# EAGLE library part AD5449 (library BeaverBoard)
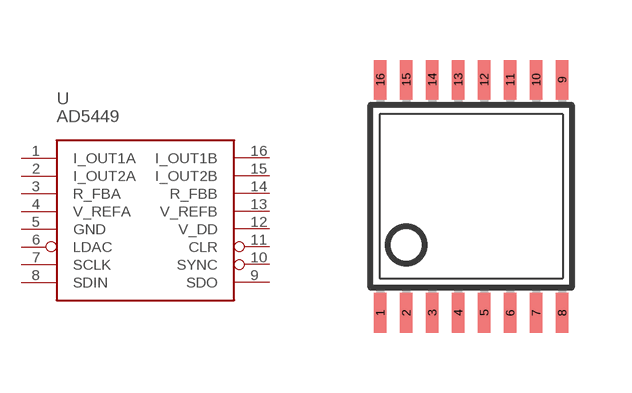
[diagram p5: symbol with the pads of TSSOP16; footprint TSSOP16]

Designator prefix -

## AD5449  [TSSOP16]
1  I_OUT1A  out
2  I_OUT2A  out
3  R_FBA
4  V_REFA
5  GND  sup
6  LDAC
7  SCLK  in
8  SDIN  in
9  SDO  out
10  SYNC  in
11  CLR
12  V_DD  sup
13  V_REFB
14  R_FBB
15  I_OUT2B  out
16  I_OUT1B  out

## Footprint TSSOP16 (pad centres in mm)
Thin Shrink Small Outline Plastic 16 MAX3223-MAX3243.pdf
smd 0.305 x 0.991: 1 -2.275,-2.918; 2 -1.625,-2.918; 3 -0.975,-2.918; 4 -0.325,-2.918; 5 0.325,-2.918; 6 0.975,-2.918; 7 1.625,-2.918; 8 2.275,-2.918; 9 2.275,2.918; 10 1.625,2.918; 11 0.975,2.918; 12 0.325,2.918; 13 -0.325,2.918; 14 -0.975,2.918; 15 -1.625,2.918; 16 -2.275,2.918